# Altium footprint library NFC_Access_Lib.PcbLib: 44 footprints (part 2 of 3)
Each footprint in its own frame and in the unit in brackets; x right, y up, seen from the top. Pads: shape width x height; smd on the part's side, far side on the other; paste and mask are expansions set on the pad; w line width, h text height; cw(c..) or ccw(c..) is an arc to the next point about the centre after c.
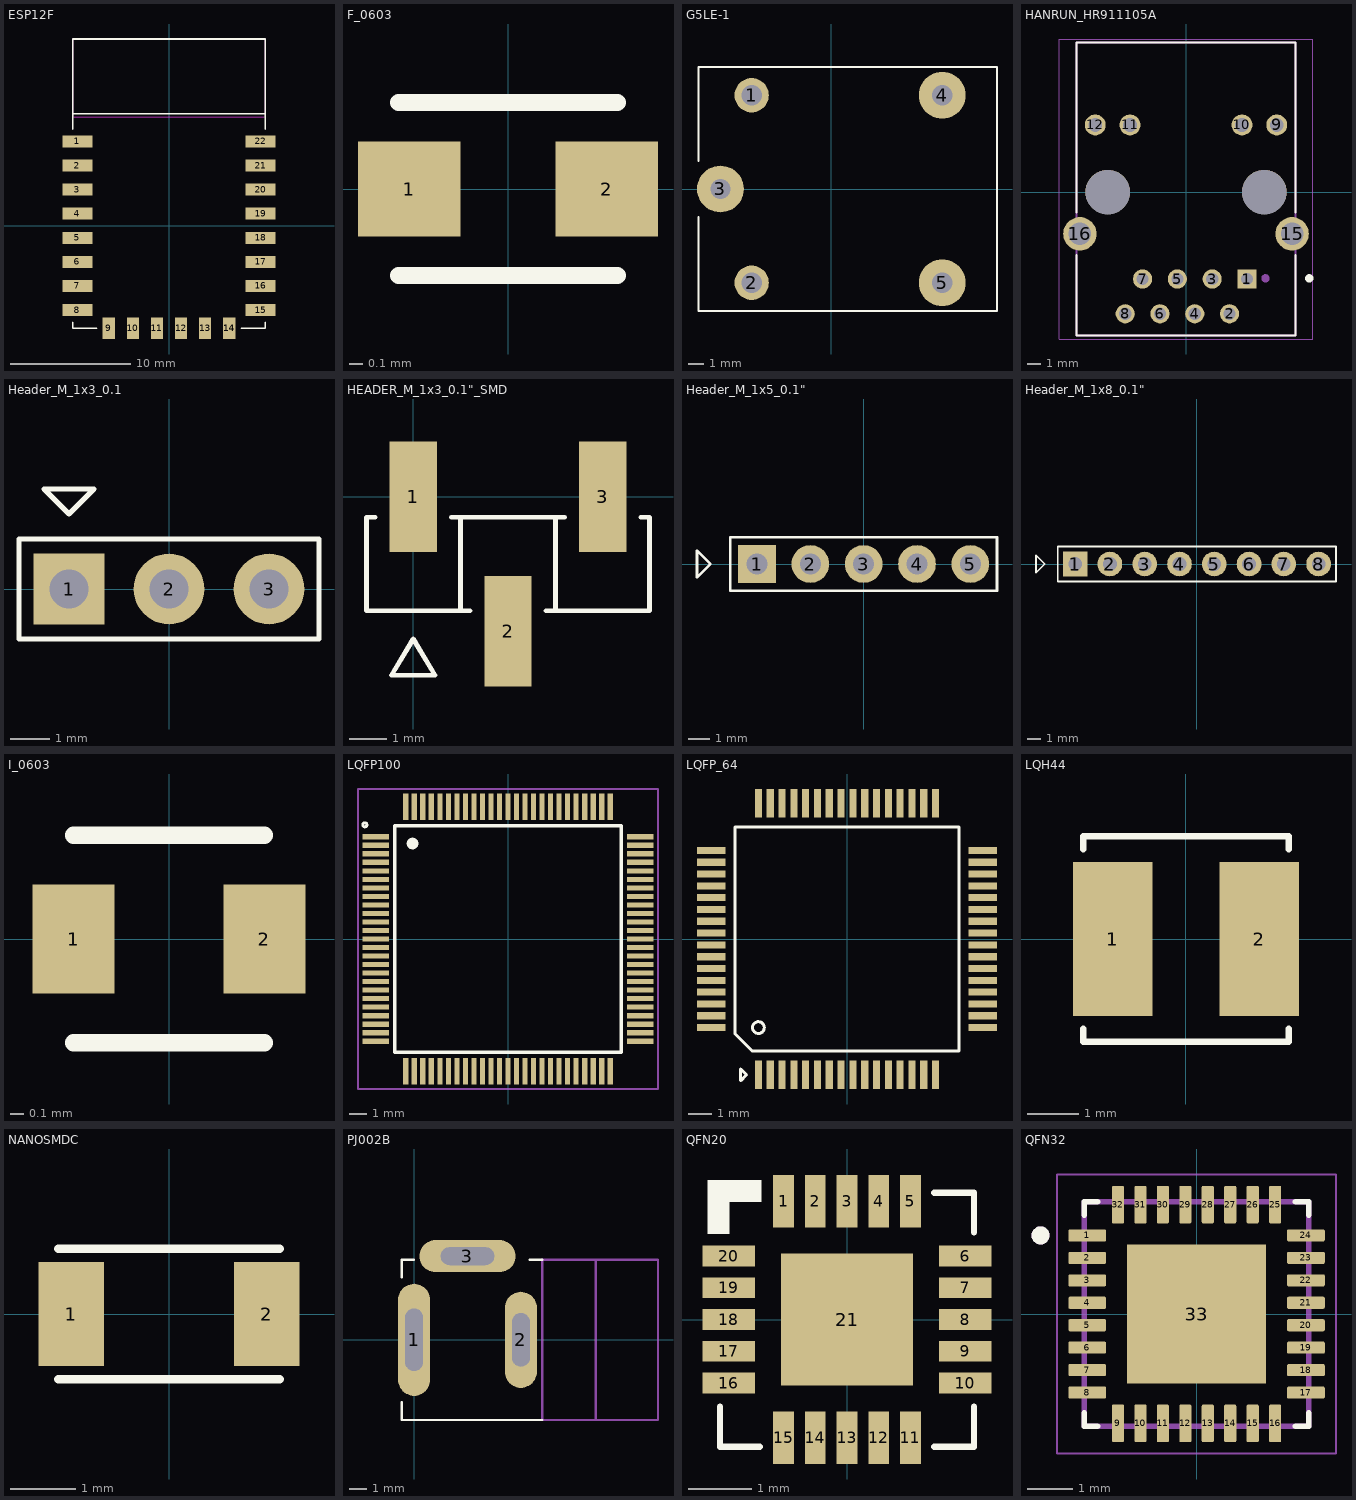
[diagram p1: the footprints below, top view; thin cyan lines are the x and y axes]

## ESP12F [mm]
pads (23):
  rect 2.5x1 smd: 1(-7.6,7) 2(-7.6,5) 3(-7.6,3) 4(-7.6,1) 5(-7.6,-1) 6(-7.6,-3) 7(-7.6,-5) 8(-7.6,-7) 15(7.6,-7) 16(7.6,-5) 17(7.6,-3) 18(7.6,-1) 19(7.6,1) 20(7.6,3) 21(7.6,5) 22(7.6,7)
  rect 1x1.8 smd: 9(-5,-8.5) 10(-3,-8.5) 11(-1,-8.5) 12(1,-8.5) 13(3,-8.5) 14(5,-8.5) 14(5,-8.5)
Top Overlay:
  lines w0.127: -8,-8 -8,-8.5 -6,-8.5 ; -8,8 -8,15.5 8,15.5 8,8 ; -8,9.3 8,9.3 ; 6,-8.5 8,-8.5 8,-8
Keep-Out Layer:
  lines w0.127: -8,9 -8,15.5 8,15.5 8,9 -8,9
3D body "User Library-ESP8266-12E.STEP": height 3.2, standoff 0.2, extent -8,-8.465 8,15.915

## F_0603 [mm] "Ferrite Bead"
pads (2):
  rect 0.75x0.7 smd: 1(-0.725,0) 2(0.725,0)
Top Overlay:
  lines w0.127: -0.8,-0.635 0.8,-0.635 ; -0.8,0.635 0.8,0.635

## G5LE-1 [mm]
pads (5):
  round 2.2 hole 1.3: 1(-5.1,6) 2(-5.1,-6)
  round 3 hole 1.3: 3(-7.1,0) 4(7.1,6) 5(7.1,-6)
Top Overlay:
  lines w0.127: -8.5,-1.8 -8.5,-7.8 10.6,-7.8 10.6,7.8 -8.5,7.8 -8.5,1.8
3D body: height 15.3, standoff 0, extent -8.5,-7.75 10.5,7.75

## HANRUN_HR911105A [mm]
pads (16):
  rect 1.398x1.398 hole 0.89: 1(4.45,-6.35)
  round 1.398 hole 0.89: 2(3.18,-8.89) 3(1.91,-6.35) 4(0.64,-8.89) 5(-0.63,-6.35) 6(-1.9,-8.89) 7(-3.17,-6.35) 8(-4.44,-8.89)
  round 1.53 hole 1.02: 9(6.625,4.9) 10(4.085,4.9) 11(-4.085,4.9) 12(-6.625,4.9)
  round 2.445 hole 1.63: 15(7.745,-3.05) 16(-7.745,-3.05)
  round 3.25 hole 3.25 unplated: ""(-5.715,0) ""(5.715,0)
Top Overlay:
  circle w0.3: c9,-6.3 r0.15
  lines w0.127: -8,-4.6 -8,-10.48 8,-10.48 8,-4.6 ; -8,-1.5 -8,10.92 8,10.92 8,-1.5
Mechanical 13:
  circle w0.3: c5.8,-6.3 r0.15
  lines w0.127: -8,-10.48 8,-10.48 8,10.92 -8,10.92 -8,-10.48
Mechanical 15:
  lines w0.05: -9.25,-10.73 9.25,-10.73 9.25,11.17 -9.25,11.17 -9.25,-10.73

## Header_M_1x3_0.1 [mm] "Header Male 1 x 3 Vias Pitch 100mils"
pads (3):
  rect 1.8x1.8 hole 1: 1(-2.54,0)
  round 1.8 hole 1: 2(0,0) 3(2.54,0)
Top Overlay:
  lines w0.127: -3.81,-1.27 -3.81,1.27 3.81,1.27 3.81,-1.27 -3.81,-1.27 ; -3.175,2.54 -1.905,2.54 -2.54,1.905 -3.175,2.54

## HEADER_M_1x3_0.1"_SMD [mm]
pads (3):
  rect 1.27x2.96 smd: 1(0,0) 2(2.54,-3.6) 3(5.08,0)
Top Overlay:
  lines w0.127: -1.016,-0.55 -1.25,-0.55 -1.25,-3.05 1.524,-3.05 ; 1.016,-0.55 4.064,-0.55 ; 1.27,-3.05 1.27,-0.55 ; 3.556,-3.05 6.33,-3.05 6.33,-0.55 6.096,-0.55 ; 3.81,-3.05 3.81,-0.55 ; -0.583,-4.781 0,-3.81 0.583,-4.781 -0.583,-4.781

## Header_M_1x5_0.1" [mm] "Header Male 1 x 5 Vias Pitch 100mils"
pads (5):
  rect 1.8x1.8 hole 1: 1(-5.08,0)
  round 1.8 hole 1: 2(-2.54,0) 3(0,0) 4(2.54,0) 5(5.08,0)
Top Overlay:
  lines w0.127: -7.938,-0.635 -7.938,0.635 -7.302,0 -7.938,-0.635 ; -6.35,-1.27 -6.35,1.27 6.35,1.27 6.35,-1.27 -6.35,-1.27
3D body "Connector Header 1x5.stp": height 8.87, standoff -2.67, extent -6.35,-1.27 6.35,1.27

## Header_M_1x8_0.1" [mm] "Header Male 1 x 8 Vias Pitch 100mils"
pads (8):
  rect 1.8x1.8 hole 1: 1(-8.89,0)
  round 1.8 hole 1: 2(-6.35,0) 3(-3.81,0) 4(-1.27,0) 5(1.27,0) 6(3.81,0) 7(6.35,0) 8(8.89,0)
Top Overlay:
  lines w0.127: -11.747,-0.635 -11.747,0.635 -11.112,0 -11.747,-0.635 ; -10.16,-1.27 -10.16,1.27 10.16,1.27 10.16,-1.27 -10.16,-1.27
3D body "User Library-1x8 TH Pitch 2_54mm.STEP": height 9.2, standoff -3.5, extent -10.16,-1.27 10.16,1.27

## I_0603 [mm]
pads (2):
  rect 0.6x0.8 smd: 1(-0.7,0) 2(0.7,0)
Top Overlay:
  lines w0.127: -0.7,-0.762 0.7,-0.762 ; -0.7,0.762 0.7,0.762

## LQFP100 [mm]
pads (100):
  rect 1.55x0.3 smd: 1(-7.75,6) 2(-7.75,5.5) 3(-7.75,5) 4(-7.75,4.5) 5(-7.75,4) 6(-7.75,3.5) 7(-7.75,3) 8(-7.75,2.5) 9(-7.75,2) 10(-7.75,1.5) 11(-7.75,1) 12(-7.75,0.5) 13(-7.75,0) 14(-7.75,-0.5) 15(-7.75,-1) 16(-7.75,-1.5) 17(-7.75,-2) 18(-7.75,-2.5) 19(-7.75,-3) 20(-7.75,-3.5) 21(-7.75,-4) 22(-7.75,-4.5) 23(-7.75,-5) 24(-7.75,-5.5) 25(-7.75,-6) 51(7.75,-6) 52(7.75,-5.5) 53(7.75,-5) 54(7.75,-4.5) 55(7.75,-4) 56(7.75,-3.5) 57(7.75,-3) 58(7.75,-2.5) 59(7.75,-2) 60(7.75,-1.5) 61(7.75,-1) 62(7.75,-0.5) 63(7.75,0) 64(7.75,0.5) 65(7.75,1) 66(7.75,1.5) 67(7.75,2) 68(7.75,2.5) 69(7.75,3) 70(7.75,3.5) 71(7.75,4) 72(7.75,4.5) 73(7.75,5) 74(7.75,5.5) 75(7.75,6)
  rect 0.3x1.55 smd: 26(-6,-7.75) 27(-5.5,-7.75) 28(-5,-7.75) 29(-4.5,-7.75) 30(-4,-7.75) 31(-3.5,-7.75) 32(-3,-7.75) 33(-2.5,-7.75) 34(-2,-7.75) 35(-1.5,-7.75) 36(-1,-7.75) 37(-0.5,-7.75) 38(0,-7.75) 39(0.5,-7.75) 40(1,-7.75) 41(1.5,-7.75) 42(2,-7.75) 43(2.5,-7.75) 44(3,-7.75) 45(3.5,-7.75) 46(4,-7.75) 47(4.5,-7.75) 48(5,-7.75) 49(5.5,-7.75) 50(6,-7.75) 76(6,7.75) 77(5.5,7.75) 78(5,7.75) 79(4.5,7.75) 80(4,7.75) 81(3.5,7.75) 82(3,7.75) 83(2.5,7.75) 84(2,7.75) 85(1.5,7.75) 86(1,7.75) 87(0.5,7.75) 88(0,7.75) 89(-0.5,7.75) 90(-1,7.75) 91(-1.5,7.75) 92(-2,7.75) 93(-2.5,7.75) 94(-3,7.75) 95(-3.5,7.75) 96(-4,7.75) 97(-4.5,7.75) 98(-5,7.75) 99(-5.5,7.75) 100(-6,7.75)
Top Overlay:
  circle w0.127: c-5.6,5.6 r0.283
  circle w0.127: c-5.6,5.6 r0.224
  circle w0.127: c-5.6,5.6 r0.141
  circle w0.127: c-5.6,5.6 r0.1
  circle w0.127: c-5.5,5.5 r0.141
  circle w0.127: c-8.4,6.7 r0.141
  circle w0.127: c-8.4,6.7 r0.1
  lines w0.2: -6.65,-6.65 6.65,-6.65 6.65,6.65 -6.65,6.65 -6.65,-6.65
Mechanical 15:
  lines w0.127: -8.8,-8.8 8.8,-8.8 8.8,8.8 -8.8,8.8 -8.8,-8.8

## LQFP_64 [mm]
pads (64):
  rect 0.3x1.2 smd: 1(-3.75,-5.75) 2(-3.25,-5.75) 3(-2.75,-5.75) 4(-2.25,-5.75) 5(-1.75,-5.75) 6(-1.25,-5.75) 7(-0.75,-5.75) 8(-0.25,-5.75) 9(0.25,-5.75) 10(0.75,-5.75) 11(1.25,-5.75) 12(1.75,-5.75) 13(2.25,-5.75) 14(2.75,-5.75) 15(3.25,-5.75) 16(3.75,-5.75) 33(3.75,5.75) 34(3.25,5.75) 35(2.75,5.75) 36(2.25,5.75) 37(1.75,5.75) 38(1.25,5.75) 39(0.75,5.75) 40(0.25,5.75) 41(-0.25,5.75) 42(-0.75,5.75) 43(-1.25,5.75) 44(-1.75,5.75) 45(-2.25,5.75) 46(-2.75,5.75) 47(-3.25,5.75) 48(-3.75,5.75)
  rect 1.2x0.3 smd: 17(5.75,-3.75) 18(5.75,-3.25) 19(5.75,-2.75) 20(5.75,-2.25) 21(5.75,-1.75) 22(5.75,-1.25) 23(5.75,-0.75) 24(5.75,-0.25) 25(5.75,0.25) 26(5.75,0.75) 27(5.75,1.25) 28(5.75,1.75) 29(5.75,2.25) 30(5.75,2.75) 31(5.75,3.25) 32(5.75,3.75) 49(-5.75,3.75) 50(-5.75,3.25) 51(-5.75,2.75) 52(-5.75,2.25) 53(-5.75,1.75) 54(-5.75,1.25) 55(-5.75,0.75) 56(-5.75,0.25) 57(-5.75,-0.25) 58(-5.75,-0.75) 59(-5.75,-1.25) 60(-5.75,-1.75) 61(-5.75,-2.25) 62(-5.75,-2.75) 63(-5.75,-3.25) 64(-5.75,-3.75)
Top Overlay:
  circle w0.127: c-3.75,-3.75 r0.25
  lines w0.127: -4.25,-5.75 -4.25,-5.75 ; -4.25,-5.75 -4.5,-6 -4.5,-5.5 -4.25,-5.75 ; -4.25,-5.75 -4.25,-5.75 ; -4.75,-4 -4.75,4.75 4.75,4.75 4.75,-4.75 -4,-4.75 -4.75,-4
3D body "User Library-LQFP64-0_5.STEP": height 1.55, standoff -0.02, extent -5.886,-5.886 5.886,5.886

## LQH44 [mm]
pads (2):
  rect 1.55x3 smd: 1(-1.425,0) 2(1.425,0)
Top Overlay:
  lines w0.127: -2,-1.75 -2,-2 2,-2 2,-1.75 ; -2,1.75 -2,2 2,2 2,1.75
3D body "LQH44PN_P0.stp": height 1.65, standoff 0, extent -2,-1.997 2,1.998

## NANOSMDC [mm]
pads (2):
  rect 1x1.6 smd: 1(-1.5,0) 2(1.5,0)
Top Overlay:
  lines w0.127: -1.7,-1 1.7,-1 ; -1.7,1 1.7,1
3D body "User Library-FUSER_nanoSMD.STEP": height 1, standoff 0, extent -1.603,-0.8 1.603,0.8

## PJ002B [mm]
pads (3):
  oval 1.8x6.3 hole 1 slot 3.5 at 90 deg: 1(0,0)
  oval 1.8x5.4 hole 1 slot 3 at 90 deg: 2(6,0)
  oval 5.4x1.8 hole 1 slot 3 at 0 deg: 3(3,4.7)
Top Overlay:
  lines w0.127: -0.7,-3.5 -0.7,-4.5 7.2,-4.5 ; -0.7,3.5 -0.7,4.5 0,4.5 ; 6.5,4.5 7.2,4.5
Mechanical 4:
  lines w0.127: 10.2,-4.5 10.2,4.5 ; 7.2,-4.5 13.7,-4.5 13.7,4.5 7.2,4.5 7.2,-4.5
3D body "User Library-PJ-002AH.STEP": height 11.05, standoff -3.45, extent -0.7,-4.7 13.7,4.7

## QFN20 [mm]
height 0.8
pads (21):
  rect 0.325x0.825 smd: 1(-1,1.863) 2(-0.5,1.863) 3(0,1.863) 4(0.5,1.863) 5(1,1.863) 11(1,-1.863) 12(0.5,-1.863) 13(0,-1.863) 14(-0.5,-1.863) 15(-1,-1.863)
  rect 0.825x0.325 smd: 6(1.863,1) 7(1.863,0.5) 8(1.863,0) 9(1.863,-0.5) 10(1.863,-1) 16(-1.863,-1) 17(-1.863,-0.5) 18(-1.863,0) 19(-1.863,0.5) 20(-1.863,1)
  rect 2.075x2.075 smd: 21(0,0)
Top Overlay:
  region: -2.2,2.2 -2.2,1.85 -1.35,1.85 -1.35,2.2
  region: -1.85,2.101 -2.2,2.101 -2.2,1.351 -1.85,1.351
  lines w0.102: -2,-1.375 -2,-2 -1.375,-2 ; 1.375,-2 2,-2 2,-1.375 ; 1.375,2 2,2 2,1.375

## QFN32 [mm]
pads (33):
  rrect25% 0.84x0.27 smd: 1(-2.435,1.75) 2(-2.435,1.25) 3(-2.435,0.75) 4(-2.435,0.25) 5(-2.435,-0.25) 6(-2.435,-0.75) 7(-2.435,-1.25) 8(-2.435,-1.75) 17(2.435,-1.75) 18(2.435,-1.25) 19(2.435,-0.75) 20(2.435,-0.25) 21(2.435,0.25) 22(2.435,0.75) 23(2.435,1.25) 24(2.435,1.75)
  rrect25% 0.27x0.84 smd: 9(-1.75,-2.435) 10(-1.25,-2.435) 11(-0.75,-2.435) 12(-0.25,-2.435) 13(0.25,-2.435) 14(0.75,-2.435) 15(1.25,-2.435) 16(1.75,-2.435) 25(1.75,2.435) 26(1.25,2.435) 27(0.75,2.435) 28(0.25,2.435) 29(-0.25,2.435) 30(-0.75,2.435) 31(-1.25,2.435) 32(-1.75,2.435)
  rect 3.1x3.1 smd paste-0.57: 33(0,0)
Top Overlay:
  circle w0.2: c-3.475,1.75 r0.1
  lines w0.127: -2.5,-2.205 -2.5,-2.5 -2.205,-2.5 ; -2.5,2.205 -2.5,2.5 -2.205,2.5 ; 2.205,-2.5 2.5,-2.5 2.5,-2.205 ; 2.205,2.5 2.5,2.5 2.5,2.205
Mechanical 13:
  circle w0.2: c-3.475,1.75 r0.1
  lines w0.127: -2.5,-2.5 -2.5,2.5 2.5,2.5 2.5,-2.5 -2.5,-2.5
Mechanical 15:
  lines w0.05: -3.105,-3.105 -3.105,3.105 3.105,3.105 3.105,-3.105 -3.105,-3.105
3D body "step_temp.STEP": height 0.8, standoff 0, extent -2.5,-2.5 2.5,2.5